# Altium schematic symbol library LVDT388.SchLib: 1 symbol
Pins are listed as number, name and electrical type; pins without a type are passive.

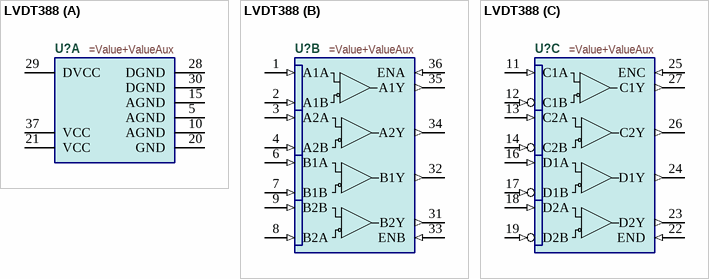
[diagram p0: symbol LVDT388]

## LVDT388
designator U?
=Description
part A pins: 5 AGND (power), 10 AGND (power), 15 AGND (power), 20 GND (power), 21 VCC (power), 28 DGND (power), 29 DVCC (power), 30 DGND (power), 37 VCC (power)
part B pins: 1 A1A (in), 2 A1B (in), 3 A2A (in), 4 A2B (in), 6 B1A (in), 7 B1B (in), 8 B2A (in), 9 B2B (in), 31 B2Y (out), 32 B1Y (out), 33 ENB (in), 34 A2Y (out), 35 A1Y (out), 36 ENA (in)
part C pins: 11 C1A (in), 12 C1B (in), 13 C2A (in), 14 C2B (in), 16 D1A (in), 17 D1B (in), 18 D2A (in), 19 D2B (in), 22 END (in), 23 D2Y (out), 24 D1Y (out), 25 ENC (in), 26 C2Y (out), 27 C1Y (out)